# Altium footprint library Juglans.PcbLib: 10 footprints
Each footprint in its own frame and in the unit in brackets; x right, y up, seen from the top. Pads: shape width x height; smd on the part's side, far side on the other; paste and mask are expansions set on the pad; w line width, h text height; cw(c..) or ccw(c..) is an arc to the next point about the centre after c.
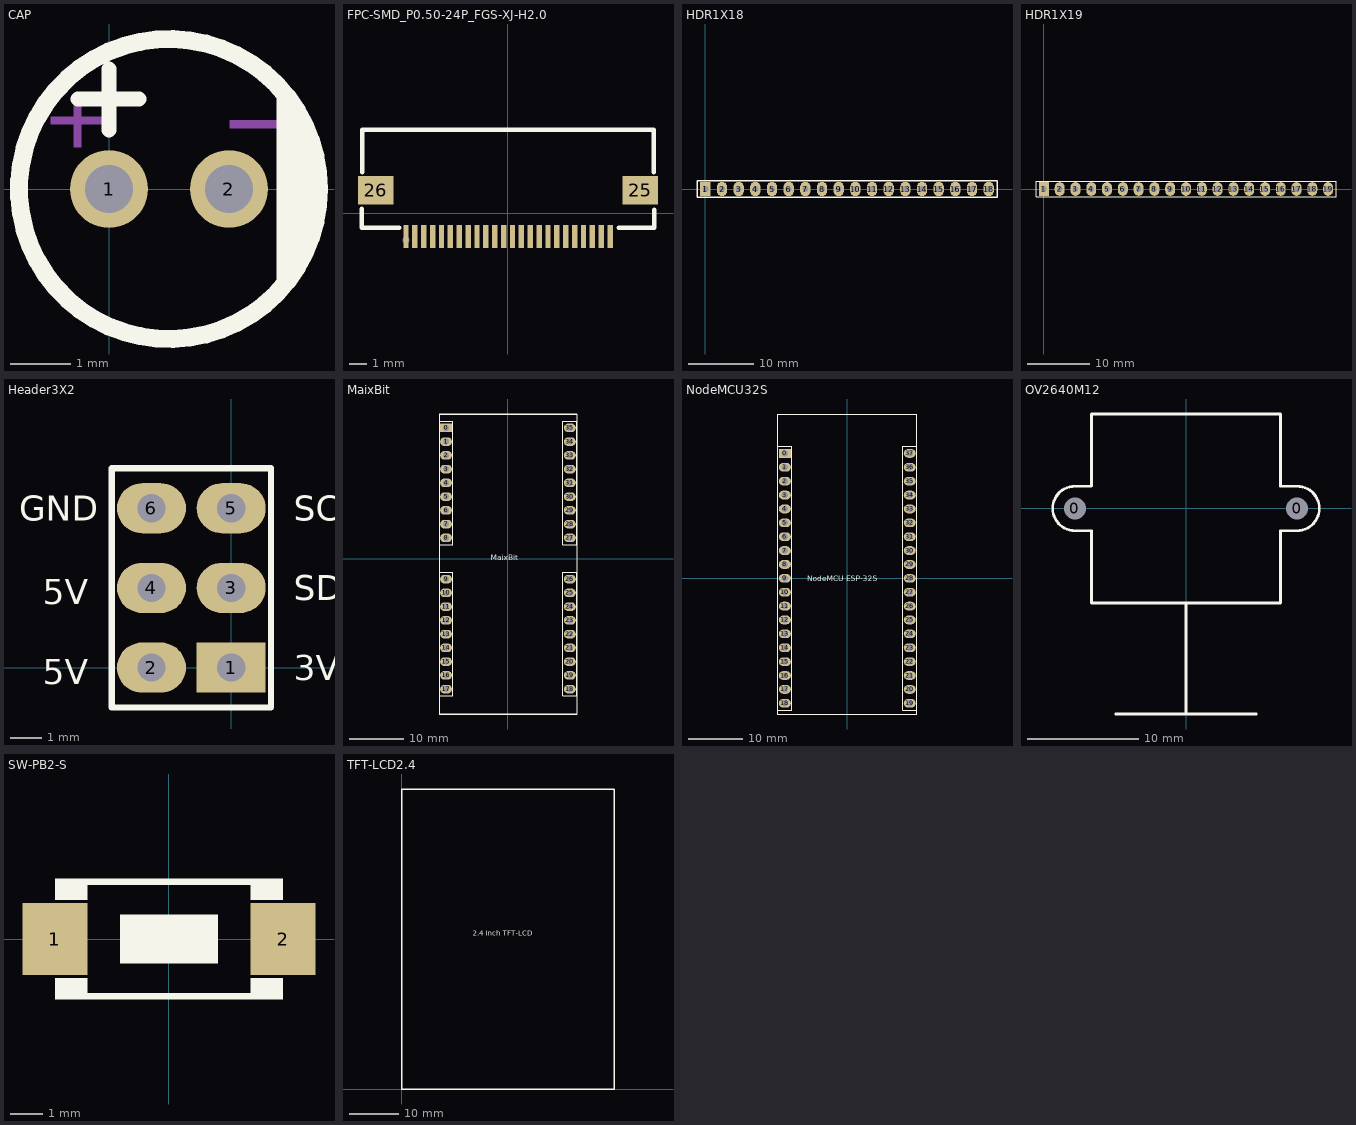
[diagram p0: the footprints below, top view; thin cyan lines are the x and y axes]

## CAP [mm]
pads (2):
  round 1.3 hole 0.8: 1(0,0) 2(2,0)
Top Overlay:
  circle w0.3: c1,0 r2.5
  region: 2.794,1.651 2.961,1.491 3.225,1.111 3.407,0.685 3.5,0.231 3.5,-0.231 3.407,-0.685 3.225,-1.111 2.961,-1.491 2.794,-1.651
  lines w0.254: -0.516,1.5 0.5,1.5 ; 0,0.984 0,2
Mechanical 15:
  region: -0.969,1.206 -0.08,1.206 -0.08,1.079 -0.969,1.079
  region: -0.588,0.699 -0.588,1.587 -0.461,1.587 -0.461,0.699
  region: 2.016,1.143 2.905,1.143 2.905,1.016 2.016,1.016

## FPC-SMD_P0.50-24P_FGS-XJ-H2.0 [mm]
pads (26):
  rect 0.3x1.3 smd: 1(-5.748,-1.301) 2(-5.248,-1.301) 3(-4.748,-1.301) 4(-4.248,-1.301) 5(-3.748,-1.301) 6(-3.248,-1.301) 7(-2.748,-1.301) 8(-2.248,-1.301) 9(-1.748,-1.301) 10(-1.248,-1.301) 11(-0.748,-1.301) 12(-0.248,-1.301) 13(0.252,-1.301) 14(0.752,-1.301) 15(1.252,-1.301) 16(1.752,-1.301) 17(2.252,-1.301) 18(2.752,-1.301) 19(3.252,-1.301) 20(3.752,-1.301) 21(4.252,-1.301) 22(4.752,-1.301) 23(5.252,-1.301) 24(5.752,-1.301)
  rect 2x1.6 smd: 25(7.45,1.301) 26(-7.45,1.301)
Top Overlay:
  lines w0.254: -8.25,0.27 -8.25,-0.8 -6.129,-0.8 ; -8.199,2.332 -8.199,4.701 8.199,4.701 ; 6.25,-0.8 8.25,-0.8 8.25,0.2 ; 8.2,2.332 8.2,4.701
Mechanical 15:
  circle w0.2: c-5.75,-1.5 r0.1

## HDR1X18 [mm] "Connector; Header; 18 Position"
height 5.33
pads (18):
  rect 1.6x2.2 hole 0.9: 1(0,0)
  oval 1.6x2.2 hole 0.9: 2(2.54,0) 3(5.08,0) 4(7.62,0) 5(10.16,0) 6(12.7,0) 7(15.24,0) 8(17.78,0) 9(20.32,0) 10(22.86,0) 11(25.4,0) 12(27.94,0) 13(30.48,0) 14(33.02,0) 15(35.56,0) 16(38.1,0) 17(40.64,0) 18(43.18,0)
Top Overlay:
  lines w0.2: -1.27,-1.27 44.45,-1.27 44.45,1.27 0.635,1.27 -1.27,1.27 -1.27,-1.27

## HDR1X19 [mm] "Connector; Header; 19 Position"
height 5.33
pads (19):
  rect 1.6x2.2 hole 0.9: 1(0,0)
  oval 1.6x2.2 hole 0.9: 2(2.54,0) 3(5.08,0) 4(7.62,0) 5(10.16,0) 6(12.7,0) 7(15.24,0) 8(17.78,0) 9(20.32,0) 10(22.86,0) 11(25.4,0) 12(27.94,0) 13(30.48,0) 14(33.02,0) 15(35.56,0) 16(38.1,0) 17(40.64,0) 18(43.18,0) 19(45.72,0)
Top Overlay:
  lines w0.2: 37.465,1.27 37.677,1.27 ; -1.27,-1.27 46.99,-1.27 46.99,1.27 0.635,1.27 -1.27,1.27 -1.27,-1.27

## Header3X2 [mm]
pads (6):
  rect 2.2x1.6 hole 0.9: 1(0,0)
  oval 2.2x1.6 hole 0.9: 2(-2.54,0) 3(0,2.54) 4(-2.54,2.54) 5(0,5.08) 6(-2.54,5.08)
Top Overlay:
  lines w0.2: 1.27,1.482 1.27,6.35 ; 1.27,6.35 -3.81,6.35 -3.81,-1.27 1.27,-1.27 1.27,6.35
  text "SCL" at 2,4.679 h0.8
  text "SDA" at 2,2.139 h0.8
  text "3V3" at 2,-0.401 h0.8
  text "5V" at -6.001,-0.528 h0.8
  text "5V" at -6.001,2.012 h0.8
  text "GND" at -6.763,4.679 h0.8
3D body "排针3_2.step": height 8.92, standoff -3.02, extent -3.828,-1.208 1.252,6.412

## MaixBit [mm] "Connector; Header; 9 Position"
height 5.33
pads (36):
  rect 2.2x1.6 hole 1.143: 0(-11.43,24.13)
  oval 2.2x1.6 hole 1.143: 1(-11.43,21.59) 2(-11.43,19.05) 3(-11.43,16.51) 4(-11.43,13.97) 5(-11.43,11.43) 6(-11.43,8.89) 7(-11.43,6.35) 8(-11.43,3.81) 9(-11.43,-3.81) 10(-11.43,-6.35) 11(-11.43,-8.89) 12(-11.43,-11.43) 13(-11.43,-13.97) 14(-11.43,-16.51) 15(-11.43,-19.05) 16(-11.43,-21.59) 17(-11.43,-24.13) 18(11.43,-24.13) 19(11.43,-21.59) 20(11.43,-19.05) 21(11.43,-16.51) 22(11.43,-13.97) 23(11.43,-11.43) 24(11.43,-8.89) 25(11.43,-6.35) 26(11.43,-3.81) 27(11.43,3.81) 28(11.43,6.35) 29(11.43,8.89) 30(11.43,11.43) 31(11.43,13.97) 32(11.43,16.51) 33(11.43,19.05) 34(11.43,21.59) 35(11.43,24.13)
Top Overlay:
  lines w0.2: -12.7,-28.727 -12.7,26.695 ; -12.7,-25.4 -10.16,-25.4 -10.16,-2.54 -12.7,-2.54 ; -12.7,2.54 -10.16,2.54 -10.16,25.4 -12.7,25.4 ; 12.713,-28.727 12.713,26.695 ; 10.16,-25.4 12.7,-25.4 12.7,-2.54 10.16,-2.54 10.16,-25.4 ; 10.16,2.54 10.16,25.4 12.7,25.4 12.7,2.54 10.16,2.54
  lines w0.254: -12.7,-28.727 12.713,-28.727 ; -12.7,26.695 12.713,26.695
  text "MaixBit" at -3.175,-0.356 h1
3D body "MaixBit v1.step": height 12.2, standoff -2.55, extent -12.704,-28.758 12.704,26.67

## NodeMCU32S [mm] "Connector; Header; 19 Position"
height 5.33
pads (38):
  rect 2.2x1.6 hole 1.143: 0(-11.43,22.86)
  oval 2.2x1.6 hole 1.143: 1(-11.43,20.32) 2(-11.43,17.78) 3(-11.43,15.24) 4(-11.43,12.7) 5(-11.43,10.16) 6(-11.43,7.62) 7(-11.43,5.08) 8(-11.43,2.54) 9(-11.43,0) 10(-11.43,-2.54) 11(-11.43,-5.08) 12(-11.43,-7.62) 13(-11.43,-10.16) 14(-11.43,-12.7) 15(-11.43,-15.24) 16(-11.43,-17.78) 17(-11.43,-20.32) 18(-11.43,-22.86) 19(11.43,-22.86) 20(11.43,-20.32) 21(11.43,-17.78) 22(11.43,-15.24) 23(11.43,-12.7) 24(11.43,-10.16) 25(11.43,-7.62) 26(11.43,-5.08) 27(11.43,-2.54) 28(11.43,0) 29(11.43,2.54) 30(11.43,5.08) 31(11.43,7.62) 32(11.43,10.16) 33(11.43,12.7) 34(11.43,15.24) 35(11.43,17.78) 36(11.43,20.32) 37(11.43,22.86)
Top Overlay:
  lines w0.2: -12.649,-24.13 -10.16,-24.13 -10.16,22.225 -10.16,24.13 -12.649,24.13 ; -10.16,-14.817 -10.16,-14.605 ; 12.7,-24.13 10.16,-24.13 10.16,24.13 12.7,24.13 ; -12.802,-24.824 12.675,-24.824 12.675,30.07 -12.802,30.07 -12.802,-24.824
  text "NodeMCU ESP-32S" at -7.366,-0.508 h1
3D body "NodeMCU32S v1.step": height 10.63, standoff -2.63, extent -12.8,-24.77 12.749,30.124

## OV2640M12 [mm]
pads (2):
  round 1.8 hole 2: 0(-10,0) 0(10,0)
Top Overlay:
  lines w0.254: -8.53,2 -10,2 ccw(c-10,0) -10,-2 -8.509,-2 ; -8.5,-2.009 -8.5,-8.5 8.5,-8.5 8.5,-2.037 ; -8.5,2.03 -8.5,8.5 8.5,8.5 8.5,2 10,2 cw(c10,0) 10,-2 8.5,-2 ; -6.325,-18.5 6.325,-18.5 ; 0,-18.5 0,-8.5

## SW-PB2-S [mm]
pads (2):
  rect 2x2.2 smd: 1(-3.5,0) 2(3.5,0)
Top Overlay:
  region: 3.5,1.85 2.5,1.85 2.5,1.2 3.5,1.2
  region: 3.5,-1.2 2.5,-1.2 2.5,-1.85 3.5,-1.85
  rectangle: -3.5,-1.85 -2.5,-1.2
  rectangle: -3.5,1.2 -2.5,1.85
  rectangle: -1.5,-0.75 1.5,0.75
  lines w0.2: -3.37,1.75 3,1.75 ; -3,-1.75 3,-1.75

## TFT-LCD2.4 [mm] "矽速2.4寸TFT液晶屏"
Top Overlay:
  lines w0.254: 0,0 0,60.26 42.72,60.26 42.72,0 0,0
  text "2.4 Inch TFT-LCD" at 14.249,30.734 h1